# Altium footprint library DIODE_POLE_S.PcbLib: 1 footprints
Each footprint in its own frame and in the unit in brackets; x right, y up, seen from the top. Pads: shape width x height; smd on the part's side, far side on the other; paste and mask are expansions set on the pad; w line width, h text height; cw(c..) or ccw(c..) is an arc to the next point about the centre after c.
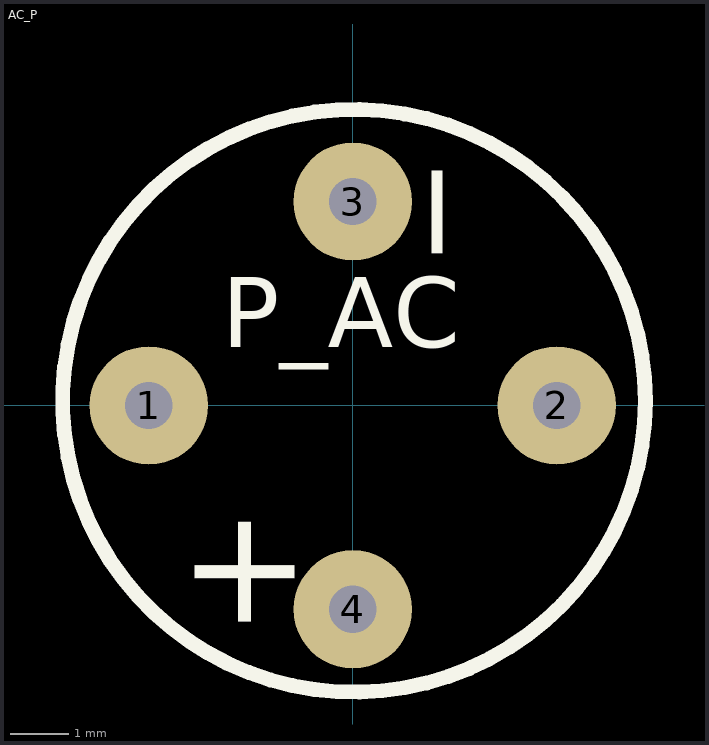
[diagram p0: the footprint, top view; thin cyan lines are the x and y axes]

## AC_P [mil]
pads (4):
  round 80 hole 32: 1(-137.79,0) 2(137.79,0) 3(0,137.8) 4(0,-137.79)
Top Overlay:
  circle w10: c0.79,3.15 r196.85
  text "P_AC" at -88.58,39.37 h47.24
  text "+" at -39.37,-157.48 h78.74
  text "_" at 78.74,157.48 h78.74